# EAGLE library part BA7230LS (library TinyNES_Library)
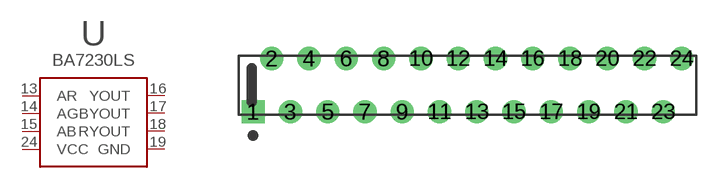
[diagram p22: symbol with the pads of SZIP-24; footprint SZIP-24]

Designator prefix U

## BA7230LS  [SZIP-24]
13  AR
14  AG
15  AB
16  YOUT
17  BYOUT
18  RYOUT
19  GND
24  VCC

## Footprint SZIP-24 (pad centres in mm)
drill 0.6 square: 1 -10.223,-1.27
drill 0.6: 2 -9.335,1.27; 3 -8.445,-1.27; 4 -7.556,1.27; 5 -6.668,-1.27; 6 -5.779,1.27; 7 -4.889,-1.27; 8 -4,1.27; 9 -3.111,-1.27; 10 -2.223,1.27; 11 -1.333,-1.27; 12 -0.445,1.27; 13 0.445,-1.27; 14 1.333,1.27; 15 2.223,-1.27; 16 3.111,1.27; 17 4,-1.27; 18 4.889,1.27; 19 5.779,-1.27; 20 6.668,1.27; 21 7.556,-1.27; 22 8.445,1.27; 23 9.335,-1.27; 24 10.223,1.27